# EAGLE library part MC6847 (library micro-motorola-rp)
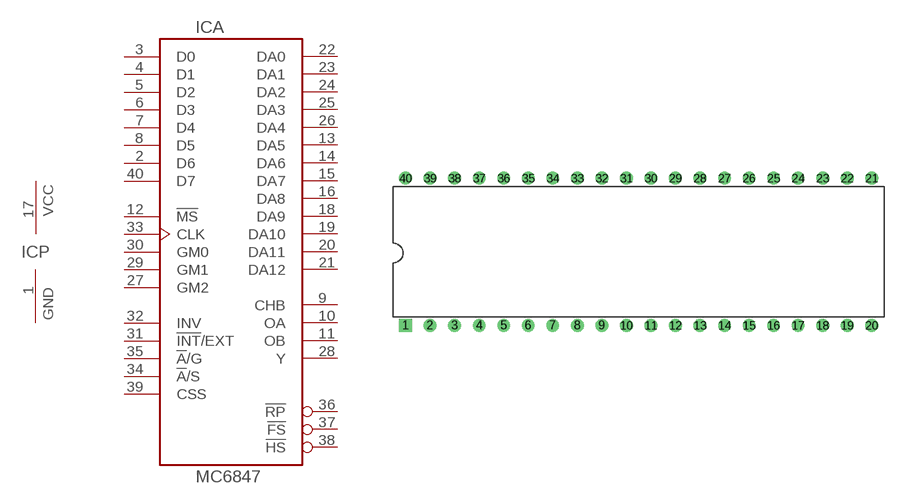
[diagram p79: symbol with the pads of DIL40; footprint DIL40]

Designator prefix IC; gates A=MC6847 P=PWR-GND

## MC6847  [DIL40]
1  P:GND  pwr
2  A:D6  in
3  A:D0  in
4  A:D1  in
5  A:D2  in
6  A:D3  in
7  A:D4  in
8  A:D5  in
9  A:CHB  out
10  A:OA  out
11  A:OB  out
12  A:!MS  in
13  A:DA5  out
14  A:DA6  out
15  A:DA7  out
16  A:DA8  out
17  P:VCC  pwr
18  A:DA9  out
19  A:DA10  out
20  A:DA11  out
21  A:DA12  out
22  A:DA0  out
23  A:DA1  out
24  A:DA2  out
25  A:DA3  out
26  A:DA4  out
27  A:GM2  in
28  A:Y  out
29  A:GM1  in
30  A:GM0  in
31  A:!INT!/EXT  in
32  A:INV  in
33  A:CLK  in
34  A:!A!/S  in
35  A:!A!/G  in
36  A:!RP  out
37  A:!FS  out
38  A:!HS  out
39  A:CSS  in
40  A:D7  in

## Footprint DIL40 (pad centres in mm)
Dual In Line Package
drill 0.813 square: 1 -24.13,-7.62
drill 0.813: 2 -21.59,-7.62; 3 -19.05,-7.62; 4 -16.51,-7.62; 5 -13.97,-7.62; 6 -11.43,-7.62; 7 -8.89,-7.62; 8 -6.35,-7.62; 9 -3.81,-7.62; 10 -1.27,-7.62; 11 1.27,-7.62; 12 3.81,-7.62; 13 6.35,-7.62; 14 8.89,-7.62; 15 11.43,-7.62; 16 13.97,-7.62; 17 16.51,-7.62; 18 19.05,-7.62; 19 21.59,-7.62; 20 24.13,-7.62; 21 24.13,7.62; 22 21.59,7.62; 23 19.05,7.62; 24 16.51,7.62; 25 13.97,7.62; 26 11.43,7.62; 27 8.89,7.62; 28 6.35,7.62; 29 3.81,7.62; 30 1.27,7.62; 31 -1.27,7.62; 32 -3.81,7.62; 33 -6.35,7.62; 34 -8.89,7.62; 35 -11.43,7.62; 36 -13.97,7.62; 37 -16.51,7.62; 38 -19.05,7.62; 39 -21.59,7.62; 40 -24.13,7.62